# Altium footprint library Conn_Molex_39-30-1020_eec_0.PcbLib: 1 footprints
Each footprint in its own frame and in the unit in brackets; x right, y up, seen from the top. Pads: shape width x height; smd on the part's side, far side on the other; paste and mask are expansions set on the pad; w line width, h text height; cw(c..) or ccw(c..) is an arc to the next point about the centre after c.
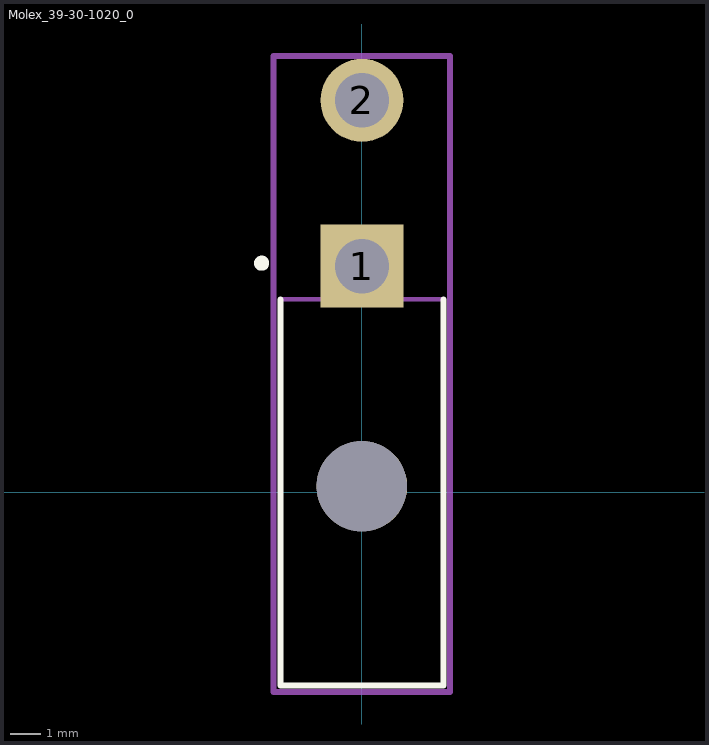
[diagram p0: the footprint, top view; thin cyan lines are the x and y axes]

## Molex_39-30-1020_0 [mm]
pads (3):
  rect 2.75x2.75 hole 1.8 paste-1000 mask+0: 1(0,7.5)
  round 2.75 hole 1.8 paste-1000 mask+0: 2(0,13)
  round 3 hole 3 unplated paste-1000 mask+0: ""(0,0.2)
Top Overlay:
  circle w0.25: c-3.325,7.6 r0.125
  lines w0.2: -2.7,6.4 -2.7,-6.4 2.7,-6.4 2.7,6.4
Mechanical 10:
  lines w0.2: -2.925,-6.625 2.925,-6.625 2.925,14.475 -2.925,14.475 -2.925,-6.625
  text ".Designator" at 0,3.925 h1
Mechanical 12:
  lines w0.15: -2.7,-6.4 2.7,-6.4 2.7,6.4 -2.7,6.4 -2.7,-6.4
Mechanical 15:
  lines w0.1: -0.5,0 0.5,0 ; 0,-0.5 0,0.5
  lines w0.2: -2.925,-6.625 2.925,-6.625 2.925,14.475 -2.925,14.475 -2.925,-6.625
3D body "3dmodel.step": height 0.25, standoff 0, extent -2.925,-6.625 2.925,14.475